# Altium footprint library PcbLib_crystal.PcbLib: 1 footprints
Each footprint in its own frame and in the unit in brackets; x right, y up, seen from the top. Pads: shape width x height; smd on the part's side, far side on the other; paste and mask are expansions set on the pad; w line width, h text height; cw(c..) or ccw(c..) is an arc to the next point about the centre after c.
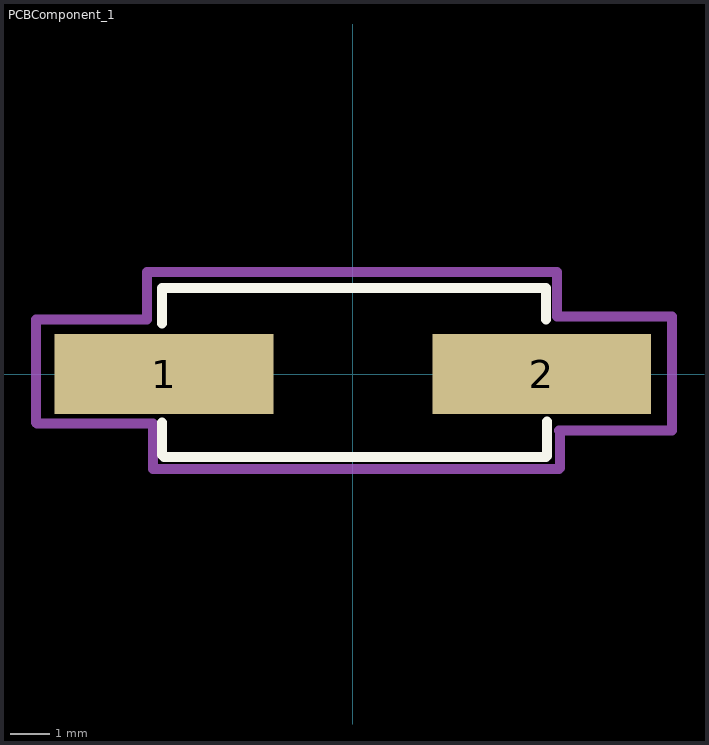
[diagram p0: the footprint, top view; thin cyan lines are the x and y axes]

## PCBComponent_1 [mm]
pads (2):
  rect 5.5x2 smd: 1(-4.75,0) 2(4.75,0)
Top Overlay:
  lines w0.254: -4.801,-1.219 -4.801,-2.032 -4.75,-2.083 4.851,-2.083 4.877,-2.057 4.877,-1.194 ; -4.801,1.27 -4.801,2.159 4.851,2.159 4.851,1.372
Mechanical29:
  lines w0.254: -7.976,-1.219 -7.976,1.372 -5.182,1.372 -5.182,2.565 -4.902,2.565 5.131,2.565 5.131,1.448 8.026,1.448 8.026,0.94 8.026,-1.422 5.182,-1.422 5.207,-1.448 5.207,-2.362 5.182,-2.388 -5.029,-2.388 -5.029,-1.245 -7.95,-1.245 -7.976,-1.219
3D body "ECS-160-S-5P-TR.STEP": height 4.31, standoff 0.01, extent -6.549,-2.334 6.651,2.466